# Altium footprint library Driver.pcblib: 20 footprints (part 2 of 2)
Each footprint in its own frame and in the unit in brackets; x right, y up, seen from the top. Pads: shape width x height; smd on the part's side, far side on the other; paste and mask are expansions set on the pad; w line width, h text height; cw(c..) or ccw(c..) is an arc to the next point about the centre after c.
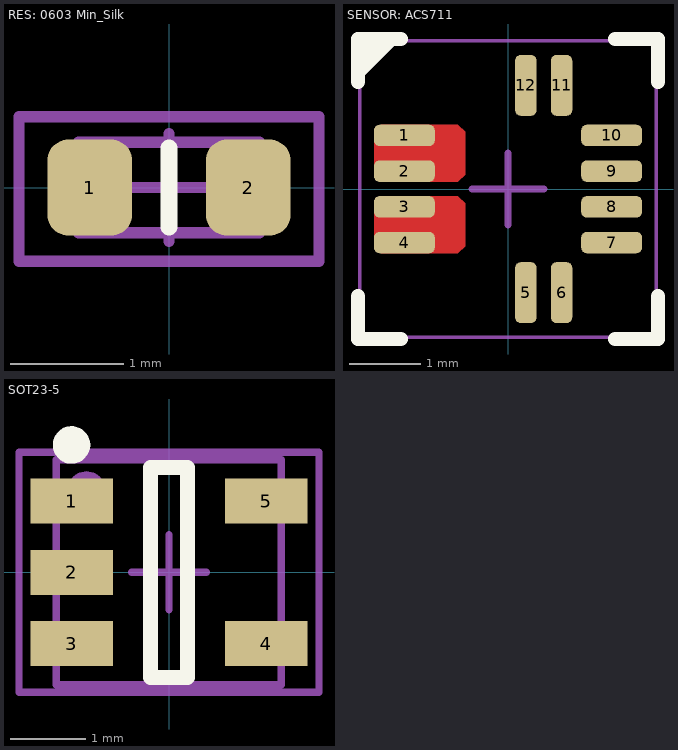
[diagram p1: the footprints below, top view; thin cyan lines are the x and y axes]

## RES: 0603 Min_Silk [mm]
pads (2):
  rrect50% 0.75x0.85 smd: 1(-0.7,0) 2(0.7,0)
Top Overlay:
  lines w0.15: 0,-0.35 0,0.35
Mechanical 1:
  lines w0.1: -0.8,-0.4 -0.8,0.4 0.8,0.4 0.8,-0.4 -0.8,-0.4
Top Assembly:
  lines w0.1: -0.475,0 0.475,0 ; 0,-0.475 0,0.475 ; -1.325,-0.65 -1.325,0.625 1.325,0.625 1.325,-0.65 -1.325,-0.65
3D body "chip_0603_r.STEP": height 0.44, standoff -0.02, extent -0.8,-0.4 0.8,0.4

## SENSOR: ACS711 [mm]
pads (12):
  rrect50% 0.85x0.3 smd: 1(-1.45,0.75) 2(-1.45,0.25) 3(-1.45,-0.25) 4(-1.45,-0.75) 7(1.45,-0.75) 8(1.45,-0.25) 9(1.45,0.25) 10(1.45,0.75)
  rrect50% 0.3x0.85 smd: 5(0.25,-1.45) 6(0.75,-1.45) 11(0.75,1.45) 12(0.25,1.45)
Top Layer:
  region: -0.7,-0.9 -0.6,-0.8 -0.6,-0.2 -0.7,-0.1 -1.775,-0.1 -1.875,-0.2 -1.875,-0.8 -1.775,-0.9
  region: -0.7,0.1 -0.6,0.2 -0.6,0.8 -0.7,0.9 -1.775,0.9 -1.875,0.8 -1.875,0.2 -1.775,0.1
Top Overlay:
  region: -2.1,1.5 -1.5,2.1 -2.1,2.1
  lines w0.2: -2.1,-1.5 -2.1,-2.1 -1.5,-2.1 ; -2.1,1.5 -2.1,2.1 -1.5,2.1 ; 1.5,-2.1 2.1,-2.1 2.1,-1.5 ; 1.5,2.1 2.1,2.1 2.1,1.5
Top Assembly:
  lines w0.05: -2.075,-2.075 2.075,-2.075 2.075,2.075 -2.075,2.075 -2.075,-2.075
  lines w0.1: -0.5,0 0.5,0 ; 0,-0.5 0,0.5
3D body "ACS711EX.step": height 0.8, standoff 0, extent -1.58,-1.58 1.58,1.58

## SOT23-5 [mm]
pads (6):
  rect 1.1x0.6 smd: 1(-1.3,0.95) 2(-1.3,0) 3(-1.3,-0.95) 4(1.3,-0.95) 5(1.3,0.95)
  round 0.5 on Mech1: ""(-1.1,1.1)
Top Overlay:
  circle w0.25: c-1.3,1.7 r0.125
  lines w0.2: -0.25,-1.4 0.25,-1.4 0.25,1.4 -0.25,1.4 -0.25,-1.4
Mechanical 1:
  lines w0.1: -1.5,-1.5 1.5,-1.5 1.5,1.5 -1.5,1.5 -1.5,-1.5
Top Assembly:
  lines w0.1: -0.5,0 0.5,0 ; 0,-0.5 0,0.5 ; -2,-1.6 2,-1.6 2,1.6 -2,1.6 -2,-1.6
3D body "SOT23-5-1.step": height 1.3, standoff 0, extent -1.5,-1.5 1.5,1.5

## TO220 [mm]